# Altium schematic symbol library sch.SchLib: 303 symbols (part 2 of 2)
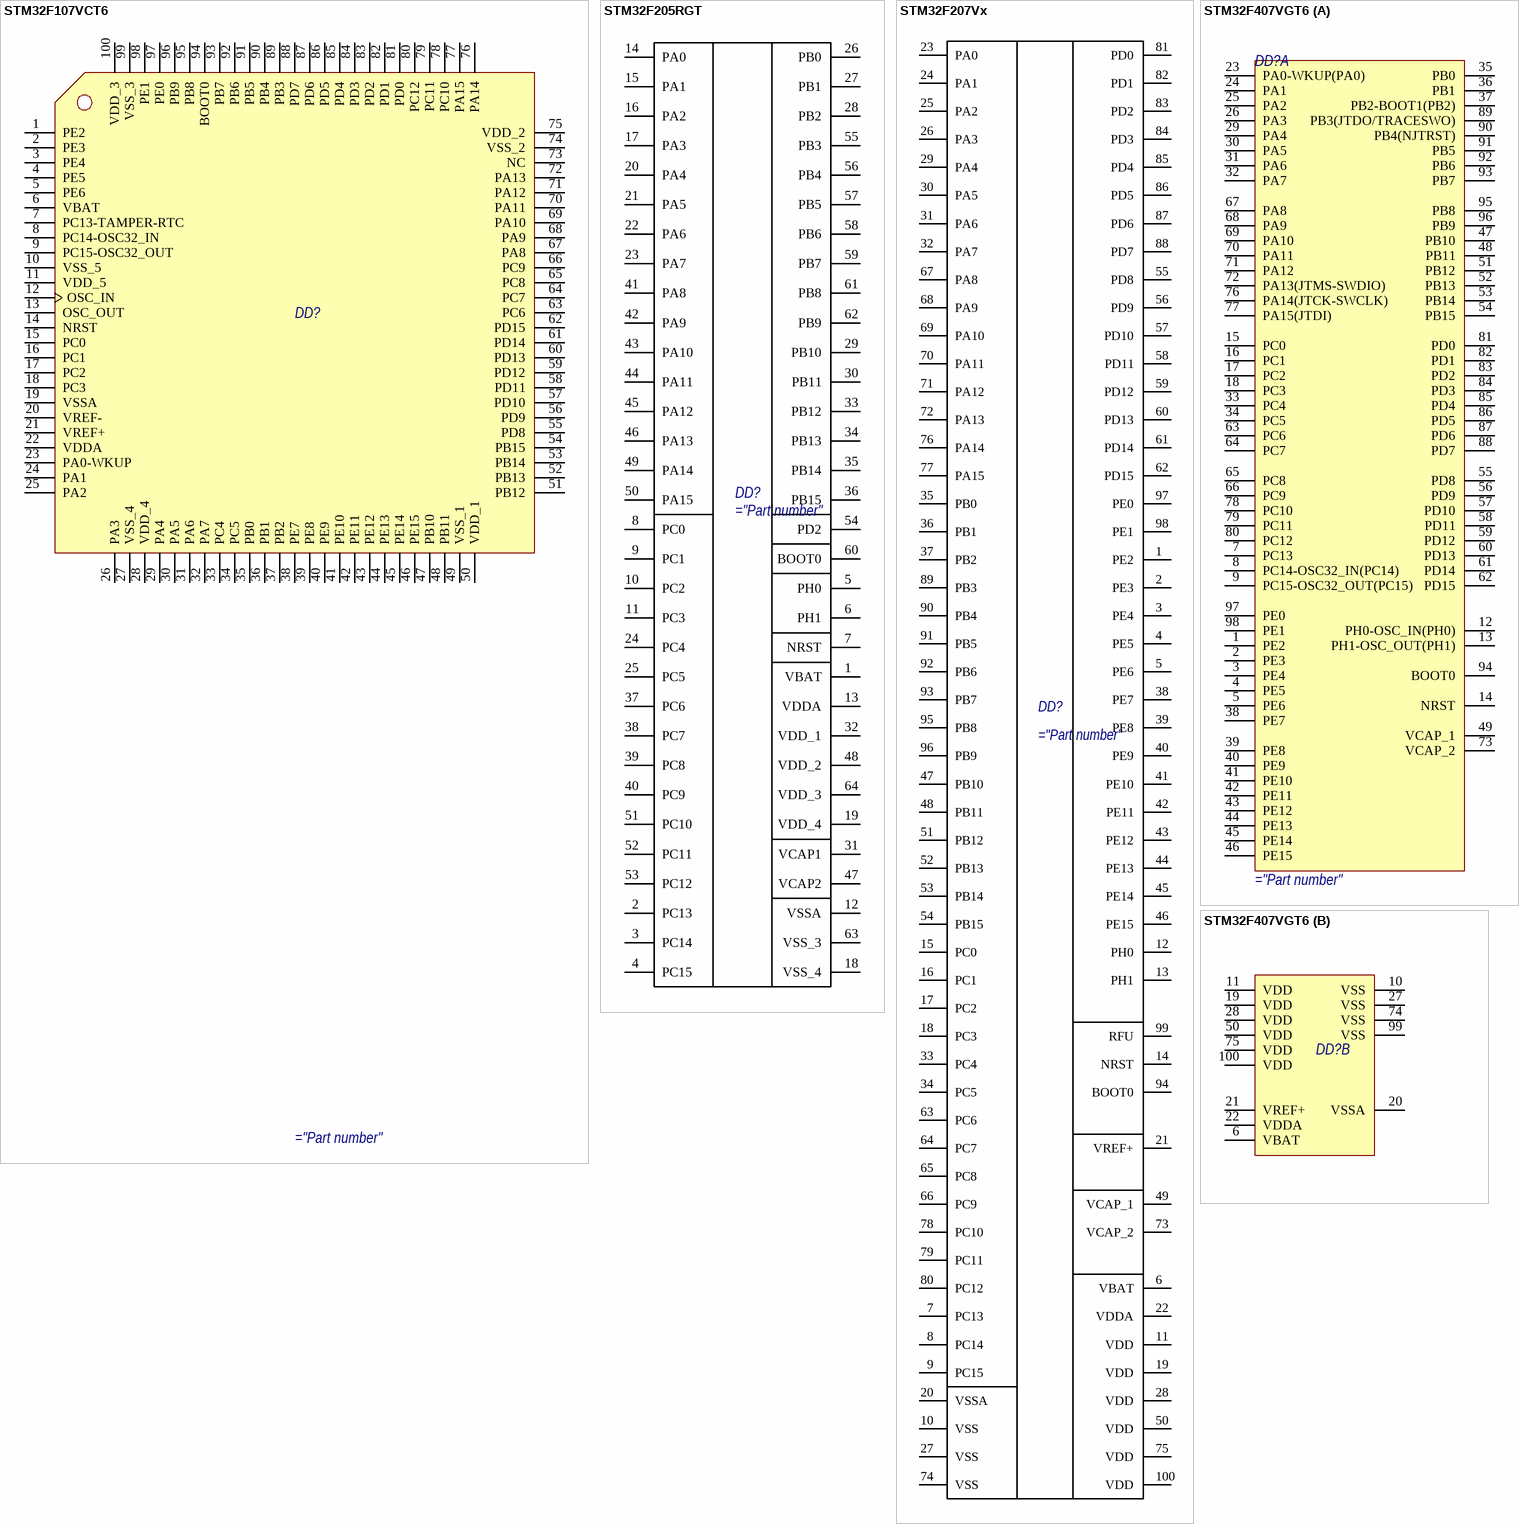
[diagram p19: symbols STM32F107VCT6 to STM32F407VGT6]

## STM32F407VGT6
designator DD?
part A pins: 1 PE2 "PE2/TRACECLK/FSMC_A23/ETH_MII_TXD3/EVENTOUT", 2 PE3 "PE3/TRACED0/FSMC_A19/EVENTOUT", 3 PE4 "PE4/TRACED1/FSMC_A20/DCMI_D4/EVENTOUT", 4 PE5 "PE5/TRACED2/FSMC_A21/TIM9_CH1/DCMI_D6/EVENTOUT", 5 PE6 "PE6/TRACED3/FSMC_A22/TIM9_CH2/DCMI_D7/EVENTOUT", 7 PC13 "PC13/EVENTOUT/RTC_OUT,RTC_TAMP1,RTC_TS", 8 PC14-OSC32_IN(PC14) "PC14-OSC32_IN(PC14)/EVENTOUT/OSC32_IN", 9 PC15-OSC32_OUT(PC15) "PC15-OSC32_OUT(PC15)/EVENTOUT/OSC32_OUT", 12 PH0-OSC_IN(PH0) "PH0-OSC_IN(PH0)/EVENTOUT/OSC_IN", 13 PH1-OSC_OUT(PH1) "PH1-OSC_OUT(PH1)/EVENTOUT/OSC_OUT", 14 NRST, 15 PC0 "PC0/OTG_HS_ULPI_STP/EVENTOUT/ADC123_IN10", 16 PC1 "PC1/ETH_MDC/EVENTOUT/ADC123_IN11", 17 PC2 "PC2/SPI2_MISO/OTG_HS_ULPI_DIR/ETH_MII_TXD2/I2S2ext_SD/EVENTOUT/ADC123_IN12", 18 PC3 "PC3/SPI2_MOSI/I2S2_SD/OTG_HS_ULPI_NXT/ETH_MII_TX_CLK/EVENTOUT/ADC123_IN13", 23 PA0-WKUP(PA0) "PA0-WKUP(PA0)/USART2_CTS/UART4_TX/ETH_MII_CRS/TIM2_CH1_ETR/TIM5_CH1/TIM8_ETR/EVENTOUT/ADC123_IN0/WKUP", 24 PA1 "PA1/USART2_RTS/UART4_RX/ETH_RMII_REF_CLK/ETH_MII_RX_CLK/TIM5_CH2/TIM2_CH2/EVENTOUT/ADC123_IN1", 25 PA2 "PA2/USART2_TX/TIM5_CH3/TIM9_CH1/TIM2_CH3/ETH_MDIO/EVENTOUT/ADC123_IN2", 26 PA3 "PA3/USART2_RX/TIM5_CH4/TIM9_CH2/TIM2_CH4/OTG_HS_ULPI_D0/ETH_MII_COL/EVENTOUT/ADC123_IN3", 29 PA4 "PA4/SPI1_NSS/SPI3_NSS/USART2_CK/DCMI_HSYNC/OTG_HS_SOF/I2S3_WS/EVENTOUT/ADC12_IN4/DAC_OUT1", 30 PA5 "PA5/SPI1_SCK/OTG_HS_ULPI_CK/TIM2_CH1_ETR/TIM8_CH1N/EVENTOUT/ADC12_IN5/DAC_OUT2", 31 PA6 "PA6/SPI1_MISO/TIM8_BKIN/TIM13_CH1/DCMI_PIXCLK/TIM3_CH1/TIM1_BKIN/EVENTOUT/ADC12_IN6", 32 PA7 "PA7/SPI1_MOSI/TIM8_CH1N/TIM14_CH1/TIM3_CH2/ETH_MII_RX_DV/TIM1_CH1N/ETH_RMII_CRS_DV/EVENTOUT/ADC12_IN7", 33 PC4 "PC4/ETH_RMII_RX_D0/ETH_MII_RX_D0/EVENTOUT/ADC12_IN14", 34 PC5 "PC5/ETH_RMII_RX_D1/ETH_MII_RX_D1/EVENTOUT/ADC12_IN15", 35 PB0 "PB0/TIM3_CH3/TIM8_CH2N/OTG_HS_ULPI_D1/ETH_MII_RXD2/TIM1_CH2N/EVENTOUT/ADC12_IN8", 36 PB1 "PB1/TIM3_CH4/TIM8_CH3N/OTG_HS_ULPI_D2/ETH_MII_RXD3/TIM1_CH3N/EVENTOUT/ADC12_IN9", 37 PB2-BOOT1(PB2) "PB2-BOOT1(PB2)/EVENTOUT", 38 PE7 "PE7/FSMC_D4/TIM1_ETR/EVENTOUT", 39 PE8 "PE8/FSMC_D5/TIM1_CH1N/EVENTOUT", 40 PE9 "PE9/FSMC_D6/TIM1_CH1/EVENTOUT", 41 PE10 "PE10/FSMC_D7/TIM1_CH2N/EVENTOUT", 42 PE11 "PE11/FSMC_D8/TIM1_CH2/EVENTOUT", 43 PE12 "PE12/FSMC_D9/TIM1_CH3N/EVENTOUT", 44 PE13 "PE13/FSMC_D10/TIM1_CH3/EVENTOUT", 45 PE14 "PE14/FSMC_D11/TIM1_CH4/EVENTOUT", 46 PE15 "PE15/FSMC_D12/TIM1_BKIN/EVENTOUT", 47 PB10 "PB10/SPI2_SCK/I2S2_CK/I2C2_SCL/USART3_TX/OTG_HS_ULPI_D3/ETH_MII_RX_ER/TIM2_CH3/EVENTOUT", 48 PB11 "PB11/I2C2_SDA/USART3_RX/OTG_HS_ULPI_D4/ETH_RMII_TX_EN/ETH_MII_TX_EN/TIM2_CH4/EVENTOUT", 49 VCAP_1, 51 PB12 "PB12/SPI2_NSS/I2S2_WS/I2C2_SMBA/USART3_CK/TIM1_BKIN/CAN2_RX/OTG_HS_ULPI_D5/ETH_RMII_TXD0/ETH_MII_TXD0/OTG_HS_ID/EVENTOUT", 52 PB13 "PB13/SPI2_SCK/I2S2_CK/USART3_CTS/TIM1_CH1N/CAN2_TX/OTG_HS_ULPI_D6/ETH_RMII_TXD1/ETH_MII_TXD1/EVENTOUT/OTG_HS_VBUS", 53 PB14 "PB14/SPI2_MISO/TIM1_CH2N/TIM12_CH1/OTG_HS_DM/USART3_RTS/TIM8_CH2N/I2S2ext_SD/EVENTOUT", 54 PB15 "PB15/SPI2_MOSI/I2S2_SD/TIM1_CH3N/TIM8_CH3N/TIM12_CH2/OTG_HS_DP/EVENTOUT/RTC_REFIN", 55 PD8 "PD8/FSMC_D13/USART3_TX/EVENTOUT", 56 PD9 "PD9/FSMC_D14/USART3_RX/EVENTOUT", 57 PD10 "PD10/FSMC_D15/USART3_CK/EVENTOUT", 58 PD11 "PD11/FSMC_CLE/FSMC_A16/USART3_CTS/EVENTOUT", 59 PD12 "PD12/FSMC_ALE/FSMC_A17/TIM4_CH1/USART3_RTS/EVENTOUT", 60 PD13 "PD13/FSMC_A18/TIM4_CH2/EVENTOUT", 61 PD14 "PD14/FSMC_D0/TIM4_CH3/EVENTOUT", 62 PD15 "PD15/FSMC_D1/TIM4_CH4/EVENTOUT", 63 PC6 "PC6/I2S2_MCK/TIM8_CH1/SDIO_D6/USART6_TX/DCMI_D0/TIM3_CH1/EVENTOUT", 64 PC7 "PC7/I2S3_MCK/TIM8_CH2/SDIO_D7/USART6_RX/DCMI_D1/TIM3_CH2/EVENTOUT", 65 PC8 "PC8/TIM8_CH3/SDIO_D0/TIM3_CH3/USART6_CK/DCMI_D2/EVENTOUT", 66 PC9 "PC9/I2S_CKIN/MCO2/TIM8_CH4/SDIO_D1/I2C3_SDA/DCMI_D3/TIM3_CH4/EVENTOUT", 67 PA8 "PA8/MCO1/USART1_CK/TIM1_CH1/I2C3_SCL/OTG_FS_SOF/EVENTOUT", 68 PA9 "PA9/USART1_TX/TIM1_CH2/I2C3_SMBA/DCMI_D0/EVENTOUT/OTG_FS_VBUS", 69 PA10 "PA10/USART1_RX/TIM1_CH3/OTG_FS_ID/DCMI_D1/EVENTOUT", 70 PA11 "PA11/USART1_CTS/CAN1_RX/TIM1_CH4/OTG_FS_DM/EVENTOUT", 71 PA12 "PA12/USART1_RTS/CAN1_TX/TIM1_ETR/OTG_FS_DP/EVENTOUT", 72 PA13(JTMS-SWDIO) "PA13(JTMS-SWDIO)/JTMS-SWDIO/EVENTOUT", 73 VCAP_2, 76 PA14(JTCK-SWCLK) "PA14(JTCK-SWCLK)/JTCK-SWCLK/EVENTOUT", 77 PA15(JTDI) "PA15(JTDI)/JTDI/SPI3_NSS/I2S3_WS/TIM2_CH1_ETR/SPI1_NSS/EVENTOUT", 78 PC10 "PC10/SPI3_SCK/I2S3_CK/UART4_TX/SDIO_D2/DCMI_D8/USART3_TX/EVENTOUT", 79 PC11 "PC11/UART4_RX/SPI3_MISO/SDIO_D3/DCMI_D4/USART3_RX/I2S3ext_SD/EVENTOUT", 80 PC12 "PC12/UART5_TX/SDIO_CK/DCMI_D9/SPI3_MOSI/I2S3_SD/USART3_CK/EVENTOUT", 81 PD0 "PD0/FSMC_D2/CAN1_RX/EVENTOUT", 82 PD1 "PD1/FSMC_D3/CAN1_TX/EVENTOUT", 83 PD2 "PD2/TIM3_ETR/UART5_RX/SDIO_CMD/DCMI_D11/EVENTOUT", 84 PD3 "PD3/FSMC_CLK/USART2_CTS/EVENTOUT", 85 PD4 "PD4/FSMC_NOE/USART2_RTS/EVENTOUT", 86 PD5 "PD5/FSMC_NWE/USART2_TX/EVENTOUT", 87 PD6 "PD6/FSMC_NWAIT/USART2_RX/EVENTOUT", 88 PD7 "PD7/USART2_CK/FSMC_NE1/FSMC_NCE2/EVENTOUT", 89 PB3(JTDO/TRACESWO) "PB3(JTDO/TRACESWO)/JTDO/TRACESWO/SPI3_SCK/I2S3_CK/TIM2_CH2/SPI1_SCK/EVENTOUT", 90 PB4(NJTRST) "PB4(NJTRST)/NJTRST/SPI3_MISO/TIM3_CH1/SPI1_MISO/I2S3ext_SD/EVENTOUT", 91 PB5 "PB5/I2C1_SMBA/CAN2_RX/OTG_HS_ULPI_D7/ETH_PPS_OUT/TIM3_CH2/SPI1_MOSI/SPI3_MOSI/DCMI_D10/I2S3_SD/EVENTOUT", 92 PB6 "PB6/I2C1_SCL/TIM4_CH1/CAN2_TX/DCMI_D5/USART1_TX/EVENTOUT", 93 PB7 "PB7/I2C1_SDA/FSMC_NL/DCMI_VSYNC/USART1_RX/TIM4_CH2/EVENTOUT", 94 BOOT0 "BOOT0/VPP", 95 PB8 "PB8/TIM4_CH3/SDIO_D4/TIM10_CH1/DCMI_D6/ETH_MII_TXD3/I2C1_SCL/CAN1_RX/EVENTOUT", 96 PB9 "PB9/SPI2_NSS/I2S2_WS/TIM4_CH4/TIM11_CH1/SDIO_D5/DCMI_D7/I2C1_SDA/CAN1_TX/EVENTOUT", 97 PE0 "PE0/TIM4_ETR/FSMC_NBL0/DCMI_D2/EVENTOUT", 98 PE1 "PE1/FSMC_NBL1/DCMI_D3/EVENTOUT"
part B pins: 6 VBAT, 10 VSS, 11 VDD, 19 VDD, 20 VSSA, 21 VREF+, 22 VDDA, 27 VSS, 28 VDD, 50 VDD, 74 VSS, 75 VDD, 99 VSS, 100 VDD

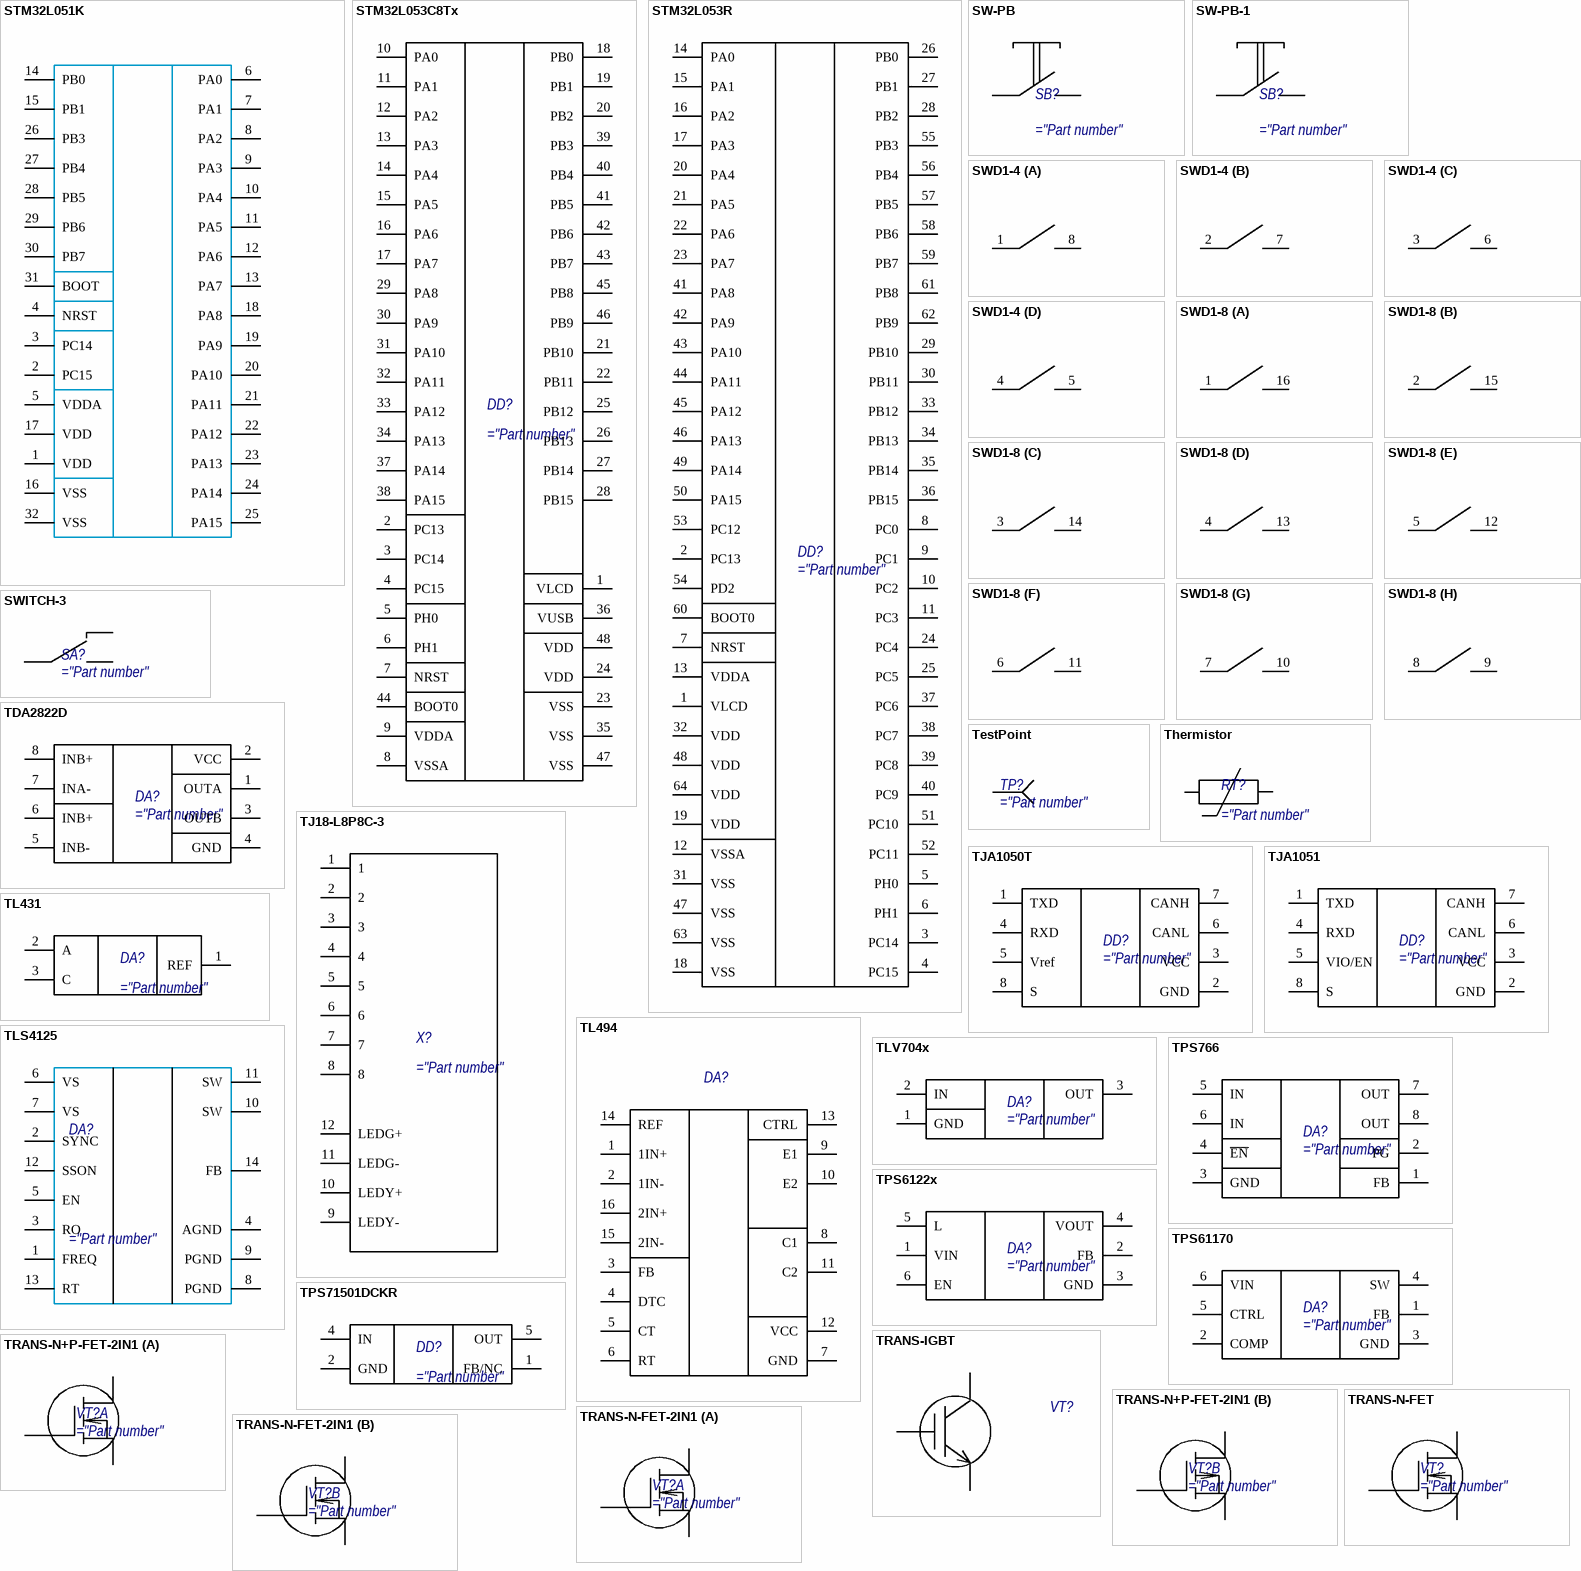
[diagram p16: symbols STM32L051K to TRANS-N-FET-2IN1]

## STM32L051K
designator DD?
pins: 1 VDD, 2 PC15, 3 PC14, 4 NRST, 5 VDDA, 6 PA0, 7 PA1, 8 PA2, 9 PA3, 10 PA4, 11 PA5, 12 PA6, 13 PA7, 14 PB0, 15 PB1, 16 VSS, 17 VDD, 18 PA8, 19 PA9, 20 PA10, 21 PA11, 22 PA12, 23 PA13, 24 PA14, 25 PA15, 26 PB3, 27 PB4, 28 PB5, 29 PB6, 30 PB7, 31 BOOT, 32 VSS

## STM32L053C8Tx
designator DD?
pins: 1 VLCD, 2 PC13, 3 PC14, 4 PC15, 5 PH0, 6 PH1, 7 NRST, 8 VSSA, 9 VDDA, 10 PA0, 11 PA1, 12 PA2, 13 PA3, 14 PA4, 15 PA5, 16 PA6, 17 PA7, 18 PB0, 19 PB1, 20 PB2, 21 PB10, 22 PB11, 23 VSS, 24 VDD, 25 PB12, 26 PB13, 27 PB14, 28 PB15, 29 PA8, 30 PA9, 31 PA10, 32 PA11, 33 PA12, 34 PA13, 35 VSS, 36 VUSB, 37 PA14, 38 PA15, 39 PB3, 40 PB4, 41 PB5, 42 PB6, 43 PB7, 44 BOOT0, 45 PB8, 46 PB9, 47 VSS, 48 VDD

## STM32L053R
designator DD?
pins: 1 VLCD "VBAT", 2 PC13 "PC13-TAMPER-RTC/PC13/TAMPER-RTC", 3 PC14 "PC14-OSC32_IN/PC14/OSC32_IN", 4 PC15 "PC15-OSC32_OUT/PC15/OSC32_OUT", 5 PH0 "PD0/OSC_IN/CAN_RX", 6 PH1 "PD1/OSC_OUT/CAN_TX", 7 NRST, 8 PC0 "PC0/ADC123_IN10", 9 PC1 "PC1/ADC123_IN11", 10 PC2 "PC2/ADC123_IN12", 11 PC3 "PC3/ADC123_IN13", 12 VSSA, 13 VDDA, 14 PA0 "PA0-WKUP/PA0/WKUP/USART2_CTS/ADC123_IN0/TIM2_CH1_ETR/TIM5_CH1/TIM8_ETR", 15 PA1 "PA1/USART2_RTS/ADC123_IN1/TIM5_CH2/TIM2_CH2", 16 PA2 "PA2/USART2_TX/TIM5_CH3/ADC123_IN2/TIM2_CH3", 17 PA3 "PA3/USART2_RX/TIM5_CH4/ADC123_IN3/TIM2_CH4", 18 VSS, 19 VDD "VDD_4", 20 PA4 "PA4/SPI1_NSS/USART2_CK/DAC_OUT1/ADC12_IN4", 21 PA5 "PA5/SPI1_SCK/DAC_OUT2/ADC12_IN5", 22 PA6 "PA6/SPI1_MISO/TIM8_BKIN/ADC12_IN6/TIM3_CH1/TIM1_BKIN", 23 PA7 "PA7/SPI1_MOSI/TIM8_CH1N/ADC12_IN7/TIM3_CH2/TIM1_CH1N", 24 PC4 "PC4/ADC12_IN14", 25 PC5 "PC5/ADC12_IN15", 26 PB0 "PB0/ADC12_IN8/TIM3_CH3/TIM8_CH2N/TIM1_CH2N", 27 PB1 "PB1/ADC12_IN9/TIM3_CH4/TIM8_CH3N/TIM1_CH3N", 28 PB2 "PB2/BOOT1", 29 PB10 "PB10/I2C2_SCL/USART3_TX/TIM2_CH3", 30 PB11 "PB11/I2C2_SDA/USART3_RX/TIM2_CH4", 31 VSS, 32 VDD "VDD_1", 33 PB12 "PB12/SPI2_NSS/I2S2_WS/I2C2_SMBA/USART3_CK/TIM1_BKIN", 34 PB13 "PB13/SPI2_SCK/I2S2_CK/USART3_CTS/TIM1_CH1N", 35 PB14 "PB14/SPI2_MISO/TIM1_CH2N/USART3_RTS", 36 PB15 "PB15/SPI2_MOSI/I2S2_SD/TIM1_CH3N", 37 PC6 "PC6/I2S2_MCK/TIM8_CH1/SDIO_D6/TIM3_CH1", 38 PC7 "PC7/I2S3_MCK/TIM8_CH2/SDIO_D7/TIM3_CH2", 39 PC8 "PC8/TIM8_CH3/SDIO_D0/TIM3_CH3", 40 PC9 "PC9/TIM8_CH4/SDIO_D1/TIM3_CH4", 41 PA8 "PA8/USART1_CK/TIM1_CH1/MCO", 42 PA9 "PA9/USART1_TX/TIM1_CH2", 43 PA10 "PA10/USART1_RX/TIM1_CH3", 44 PA11 "PA11/USART1_CTS/USBDM/CAN_RX/TIM1_CH4", 45 PA12 "PA12/USART1_RTS/USBDP/CAN_TX/TIM1_ETR", 46 PA13 "PA13/JTMS-SWDIO", 47 VSS, 48 VDD "VDD_2", 49 PA14 "PA14/JTCK-SWCLK", 50 PA15 "PA15/JTDI/SPI3_NSS/I2S3_WS/TIM2_CH1_ETR/SPI1_NSS", 51 PC10 "PC10/UART4_TX/SDIO_D2/USART3_TX", 52 PC11 "PC11/UART4_RX/SDIO_D3/USART3_RX", 53 PC12 "PC12/UART5_TX/SDIO_CK/USART3_CK", 54 PD2 "PD2/TIM3_ETR/UART5_RX/SDIO_CMD", 55 PB3 "PB3/JTDO/SPI3_SCK/I2S3_CK/TRACESWO/TIM2_CH2/SPI1_SCK", 56 PB4 "PB4/NJTRST/SPI3_MISO/TIM3_CH1/SPI1_MISO", 57 PB5 "PB5/I2C1_SMBA/SPI3_MOSI/I2S3_SD/TIM3_CH2/SPI1_MOSI", 58 PB6 "PB6/I2C1_SCL/TIM4_CH1/USART1_TX", 59 PB7 "PB7/I2C1_SDA/TIM4_CH2/USART1_RX", 60 BOOT0, 61 PB8 "PB8/TIM4_CH3/SDIO_D4/I2C1_SCL/CAN_RX", 62 PB9 "PB9/TIM4_CH4/SDIO_D5/I2C1_SDA/CAN_TX", 63 VSS, 64 VDD "VDD_3"

## SW-PB
designator SB?
pins: 1, 2

## SW-PB-1
designator SB?
pins: 1, 2

## SWD1-4
designator SA?, comment Обозначение при заказе  (value not drawn)
Описание свойств компонента
part A pins: 1, 8
part B pins: 2, 7
part C pins: 3, 6
part D pins: 4, 5

## SWD1-8
designator SA?
Описание свойств компонента
part A pins: 1, 16
part B pins: 2, 15
part C pins: 3, 14
part D pins: 4, 13
part E pins: 5, 12
part F pins: 6, 11
part G pins: 7, 10
part H pins: 8, 9

## SWITCH-3
designator SA?
pins: 1, 2, 3

## TDA2822D
designator DA?
pins: 1 OUTA, 2 VCC, 3 OUTB, 4 GND, 5 INB-, 6 INB+, 7 INA-, 8 INB+

## TestPoint
designator TP?  (no BOM)
pins: 1

## Thermistor
designator RT?
pins: 1, 2

## TJ18-L8P8C-3
designator X?
pins: 1, 2, 3, 4, 5, 6, 7, 8, 9 LEDY-, 10 LEDY+, 11 LEDG-, 12 LEDG+

## TJA1050T
designator DD?
pins: 1 TXD, 2 GND, 3 VCC, 4 RXD, 5 Vref, 6 CANL, 7 CANH, 8 S

## TJA1051
designator DD?
pins: 1 TXD, 2 GND, 3 VCC, 4 RXD, 5 VIO/EN, 6 CANL, 7 CANH, 8 S

## TL431
designator DA?
pins: 1 REF, 2 A, 3 C

## TL494
designator DA?
pins: 1 1IN+, 2 1IN-, 3 FB, 4 DTC, 5 CT, 6 RT, 7 GND, 8 C1, 9 E1, 10 E2, 11 C2, 12 VCC, 13 CTRL, 14 REF, 15 2IN-, 16 2IN+

## TLS4125
designator DA?
pins: 1 FREQ, 2 SYNC, 3 RO, 4 AGND, 5 EN, 6 VS, 7 VS, 8 PGND, 9 PGND, 10 SW, 11 SW, 12 SSON, 13 RT, 14 FB

## TLV704x
designator DA?
pins: 1 GND, 2 IN, 3 OUT

## TPS766
designator DA?
pins: 1 FB, 2 PG, 3 GND, 4 ~{EN}, 5 IN, 6 IN, 7 OUT, 8 OUT

## TPS6122x
designator DA?
pins: 1 VIN, 2 FB, 3 GND, 4 VOUT, 5 L, 6 EN

## TPS61170
designator DA?
pins: 1 FB, 2 COMP, 3 GND, 4 SW, 5 CTRL, 6 VIN

## TPS71501DCKR
designator DD?
pins: 1 FB/NC, 2 GND, 4 IN, 5 OUT

## TRANS-IGBT
designator VT?
pins: C, E, G

## TRANS-N+P-FET-2IN1
designator VT?
part A pins: D1, G1, S1
part B pins: D2, G2, S2

## TRANS-N-FET
designator VT?
pins: D, G, S

## TRANS-N-FET-2IN1
designator VT?
part A pins: D1, G1, S1
part B pins: D2, G2, S2

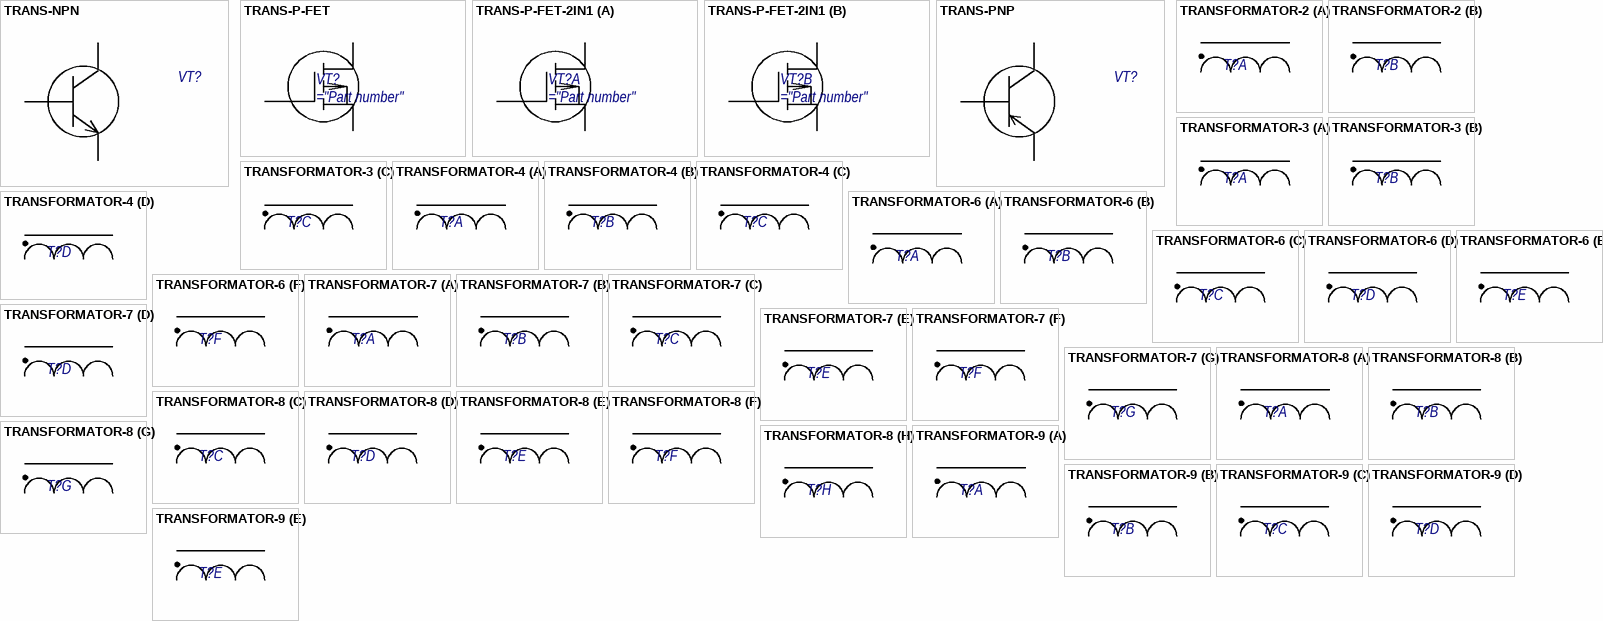
[diagram p17: symbols TRANS-NPN to TRANSFORMATOR-9]

## TRANS-NPN
designator VT?
pins: B, C, E

## TRANS-P-FET
designator VT?
pins: D, G, S

## TRANS-P-FET-2IN1
designator VT?
part A pins: D1, G1, S1
part B pins: D2, G2, S2

## TRANS-PNP
designator VT?
pins: B, C, E

## TRANSFORMATOR-2
designator T?
part A pins: 1, 2
part B pins: 3, 4

## TRANSFORMATOR-3
designator T?
part A pins: 1, 2
part B pins: 3, 4
part C pins: 5, 6

## TRANSFORMATOR-4
designator T?
part A pins: 7, 8
part B pins: 1, 2
part C pins: 3, 4
part D pins: 5, 6

## TRANSFORMATOR-6
designator T?
part A pins: 1, 2
part B pins: 3, 4
part C pins: 5, 6
part D pins: 7, 8
part E pins: 9, 10
part F pins: 11, 12

## TRANSFORMATOR-7
designator T?
part A pins: 1, 2
part B pins: 3, 4
part C pins: 5, 6
part D pins: 7, 8
part E pins: 9, 10
part F pins: 11, 12
part G pins: 13, 14

## TRANSFORMATOR-8
designator T?
part A pins: 1, 2
part B pins: 3, 4
part C pins: 5, 6
part D pins: 7, 8
part E pins: 9, 10
part F pins: 11, 12
part G pins: 13, 14
part H pins: 15, 16

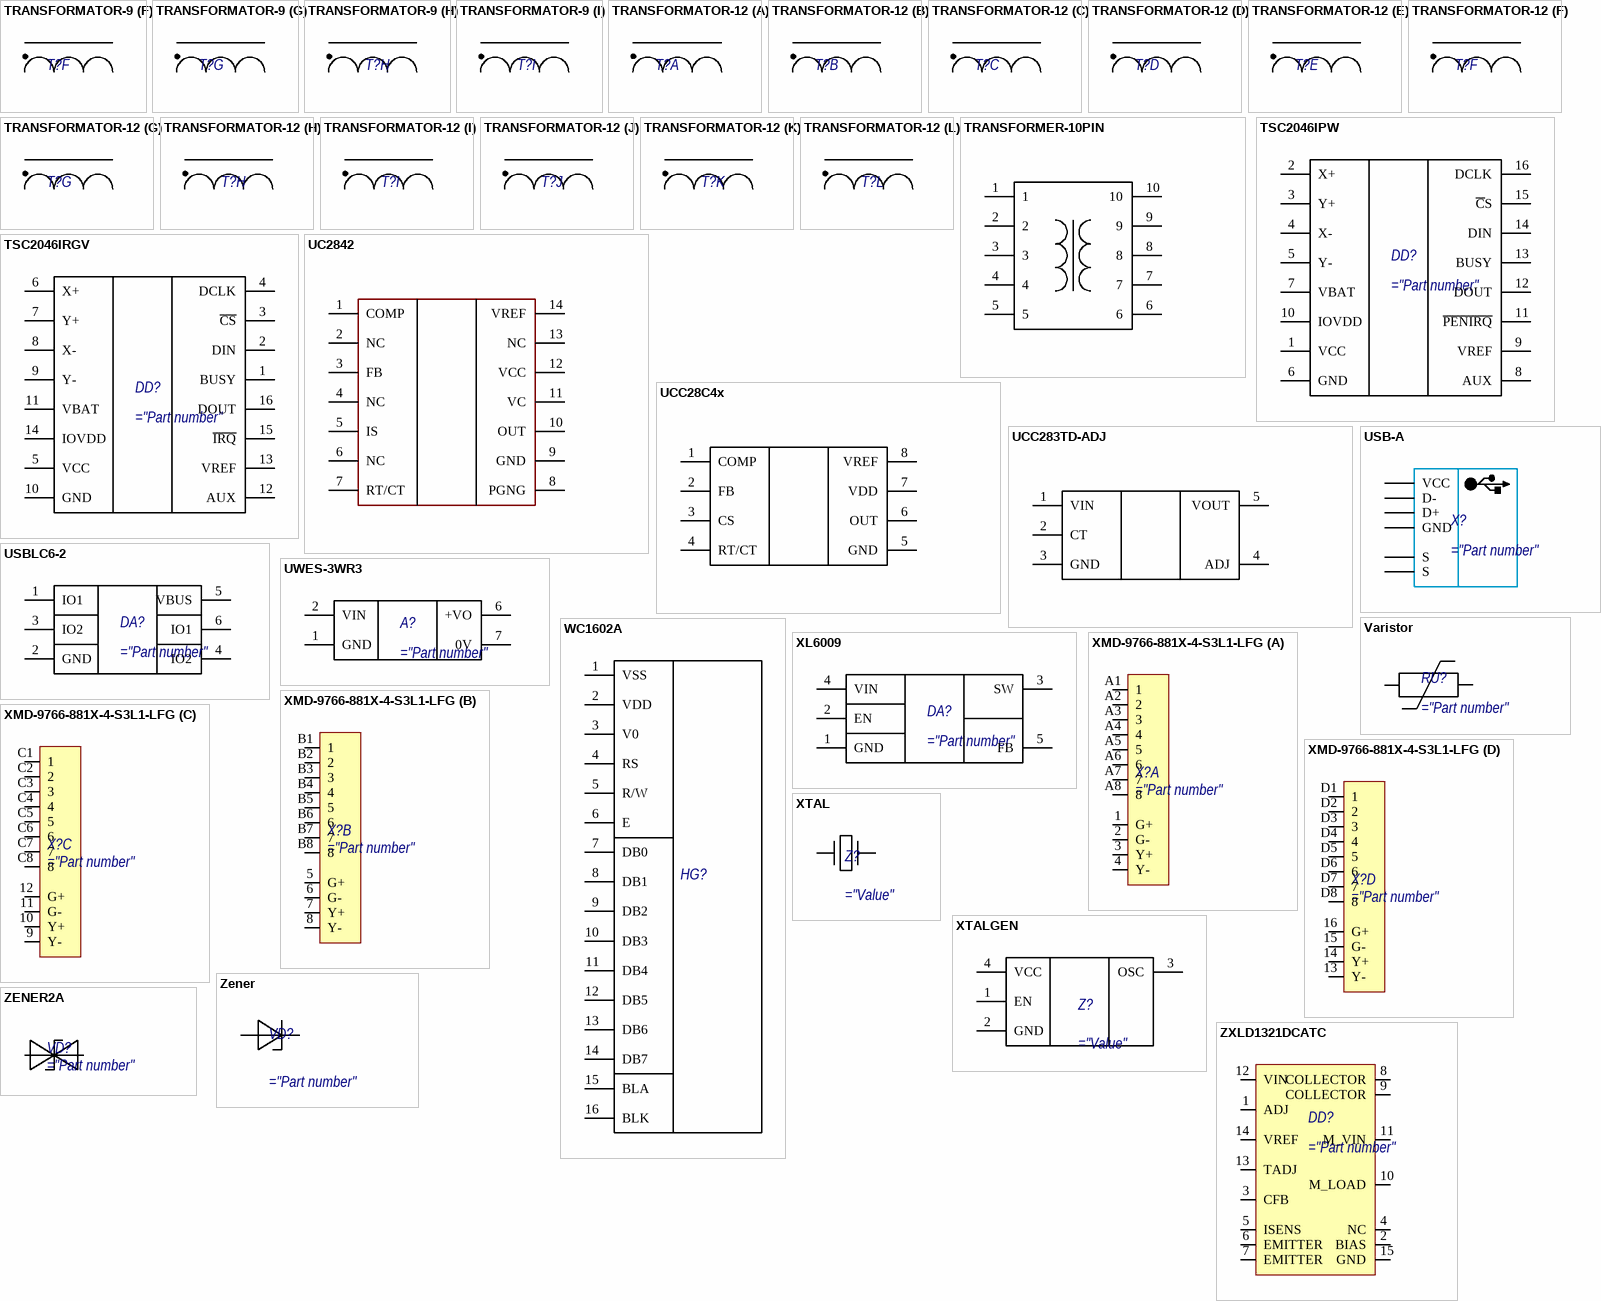
[diagram p18: symbols TRANSFORMATOR-9 to ZXLD1321DCATC]

## TRANSFORMATOR-9
designator T?
part A pins: 1, 2
part B pins: 3, 4
part C pins: 5, 6
part D pins: 7, 8
part E pins: 9, 10
part F pins: 11, 12
part G pins: 13, 14
part H pins: 15, 16
part I pins: 17, 18

## TRANSFORMATOR-12
designator T?
part A pins: 1, 2
part B pins: 3, 4
part C pins: 5, 6
part D pins: 7, 8
part E pins: 9, 10
part F pins: 11, 12
part G pins: 13, 14
part H pins: 15, 16
part I pins: 17, 18
part J pins: 19, 20
part K pins: 21, 22
part L pins: 23, 24

## TRANSFORMER-10PIN
designator T?
pins: 1 "PA1/USART2_RTS/ADC1_IN1/TIM2_CH2", 2 "PA1/USART2_RTS/ADC1_IN1/TIM2_CH2", 3 "PA1/USART2_RTS/ADC1_IN1/TIM2_CH2", 4 "PA1/USART2_RTS/ADC1_IN1/TIM2_CH2", 5 "PA1/USART2_RTS/ADC1_IN1/TIM2_CH2", 6 "PA1/USART2_RTS/ADC1_IN1/TIM2_CH2", 7 "PA1/USART2_RTS/ADC1_IN1/TIM2_CH2", 8 "PA1/USART2_RTS/ADC1_IN1/TIM2_CH2", 9 "PA1/USART2_RTS/ADC1_IN1/TIM2_CH2", 10 "PA1/USART2_RTS/ADC1_IN1/TIM2_CH2"

## TSC2046IPW
designator DD?
pins: 1 VCC, 2 X+, 3 Y+, 4 X-, 5 Y-, 6 GND, 7 VBAT, 8 AUX, 9 VREF, 10 IOVDD, 11 ~{PENIRQ}, 12 DOUT, 13 BUSY, 14 DIN, 15 ~{C}S, 16 DCLK

## TSC2046IRGV
designator DD?
pins: 1 BUSY, 2 DIN, 3 ~{CS}, 4 DCLK, 5 VCC, 6 X+, 7 Y+, 8 X-, 9 Y-, 10 GND, 11 VBAT, 12 AUX, 13 VREF, 14 IOVDD, 15 ~{IRQ}, 16 DOUT

## UC2842
designator DA?
pins: 1 COMP, 2 NC, 3 FB, 4 NC, 5 IS, 6 NC, 7 RT/CT, 8 PGNG, 9 GND, 10 OUT, 11 VC, 12 VCC, 13 NC, 14 VREF

## UCC28C4x
designator DA?
pins: 1 COMP, 2 FB, 3 CS, 4 RT/CT, 5 GND, 6 OUT, 7 VDD, 8 VREF

## UCC283TD-ADJ
designator DA?
pins: 1 VIN, 2 CT, 3 GND, 4 ADJ, 5 VOUT

## USB-A
designator X?
pins: 1 VCC, 2 D-, 3 D+, 4 GND, 5 S, 6 S

## USBLC6-2
designator DA?
pins: 1 IO1, 2 GND, 3 IO2, 4 IO2, 5 VBUS, 6 IO1

## UWES-3WR3
designator A?
pins: 1 GND, 2 VIN, 6 +VO, 7 0V

## Varistor
designator RU?
pins: 1, 2

## WC1602A
designator HG?
pins: 1 VSS, 2 VDD, 3 V0, 4 RS, 5 R/W, 6 E, 7 DB0, 8 DB1, 9 DB2, 10 DB3, 11 DB4, 12 DB5, 13 DB6, 14 DB7, 15 BLA, 16 BLK

## XL6009
designator DA?
pins: 1 GND, 2 EN, 3 SW, 4 VIN, 5 FB

## XMD-9766-881X-4-S3L1-LFG
designator X?
part A pins: 1 G+, 2 G-, 3 Y+, 4 Y-, A1 1, A2 2, A3 3, A4 4, A5 5, A6 6, A7 7, A8 8
part B pins: 5 G+, 6 G-, 7 Y+, 8 Y-, B1 1, B2 2, B3 3, B4 4, B5 5, B6 6, B7 7, B8 8
part C pins: 9 Y-, 10 Y+, 11 G-, 12 G+, C1 1, C2 2, C3 3, C4 4, C5 5, C6 6, C7 7, C8 8
part D pins: 13 Y-, 14 Y+, 15 G-, 16 G+, D1 1, D2 2, D3 3, D4 4, D5 5, D6 6, D7 7, D8 8

## XTAL
designator Z?
pins: 1 OSC1, 2 OSC2

## XTALGEN
designator Z?
pins: 1 EN, 2 GND, 3 OSC, 4 VCC

## Zener
designator VD?
pins: A, C

## ZENER2A
designator VD?
pins: A, C

## ZXLD1321DCATC
designator DD?
pins: 1 ADJ, 2 BIAS, 3 CFB, 4 NC, 5 ISENS, 6 EMITTER, 7 EMITTER, 8 COLLECTOR, 9 COLLECTOR, 10 M_LOAD, 11 M_VIN, 12 VIN, 13 TADJ, 14 VREF, 15 GND